# EAGLE library part 2X06 (library Jordi)
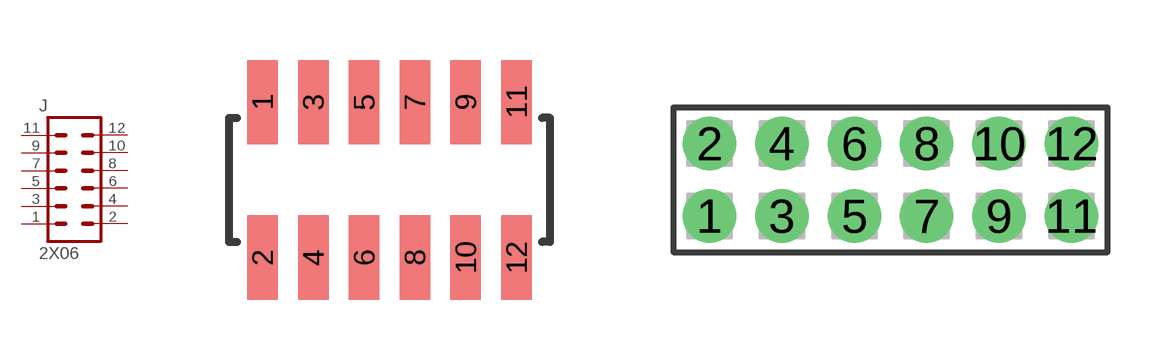
[diagram p2: symbol with the pads of F-2X06-0.05-SMD; footprints F-2X06-0.05-SMD, F-2X06-0.1-PTH]

Designator prefix J

## 2X06F-0.05-SMD  [F-2X06-0.05-SMD]
1  1  pas
2  2  pas
3  3  pas
4  4  pas
5  5  pas
6  6  pas
7  7  pas
8  8  pas
9  9  pas
10  10  pas
11  11  pas
12  12  pas

## 2X06F-0.1-PTH  [F-2X06-0.1-PTH]
Pads as for F-2X06-0.05-SMD

## Footprint F-2X06-0.05-SMD (pad centres in mm)
smd 0.762 x 2.108: 1 -3.175,1.943; 2 -3.175,-1.943; 3 -1.905,1.943; 4 -1.905,-1.943; 5 -0.635,1.943; 6 -0.635,-1.943; 7 0.635,1.943; 8 0.635,-1.943; 9 1.905,1.943; 10 1.905,-1.943; 11 3.175,1.943; 12 3.175,-1.943

## Footprint F-2X06-0.1-PTH (pad centres in mm)
drill 1.016 pad 1.88: 1 -6.35,-1.27; 2 -6.35,1.27; 3 -3.81,-1.27; 4 -3.81,1.27; 5 -1.27,-1.27; 6 -1.27,1.27; 7 1.27,-1.27; 8 1.27,1.27; 9 3.81,-1.27; 10 3.81,1.27; 11 6.35,-1.27; 12 6.35,1.27